# Altium integrated library NSC Interface DC Motor Controller Driver.IntLib: 1 symbol
Pins are listed as number, name and electrical type; pins without a type are passive.

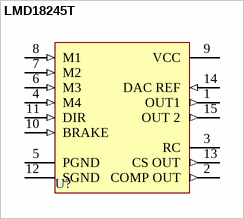
[diagram p0: symbol LMD18245T]

## LMD18245T
designator U?
3A, 55V DMOS Full-Bridge Motor Driver; Published: 15-Apr-2002; DatasheetVersion: Apr-1998; PackageVersion: Apr-1998; PackageReference: TA15A; Publisher: Altium Limited; PackageDescription: TO, Thru-Hole, Vertical, Heatsink Mounted; 15 Bent Staggered Leads; Pitch 1.27 mm; ComponentLink1Description: Manufacturer Link; ComponentLink1URL: http://www.national.com/; ComponentLink2Description: Datasheet; ComponentLink2URL: http://www.national.com/ds.cgi/LM/LMD18245.pdf; ComponentLink3Description: URL Link1; ComponentLink3URL: http://www.national.com/pf/LM/LMD18245.html
footprint TA15A (TO, Thru-Hole, Vertical, Heatsink Mounted; 15 Bent Staggered Leads; Pitch 1.27 mm)
pins: 1 OUT1 (out), 2 COMP OUT (out), 3 RC, 4 M4 (in), 5 PGND (power), 6 M3 (in), 7 M2 (in), 8 M1 (in), 9 VCC (power), 10 BRAKE (in), 11 DIR (in), 12 SGND (power), 13 CS OUT (out), 14 DAC REF (in), 15 OUT 2 (out)